# Altium footprint library Connectors.PcbLib: 86 footprints (part 3 of 6)
Each footprint in its own frame and in the unit in brackets; x right, y up, seen from the top. Pads: shape width x height; smd on the part's side, far side on the other; paste and mask are expansions set on the pad; w line width, h text height; cw(c..) or ccw(c..) is an arc to the next point about the centre after c.
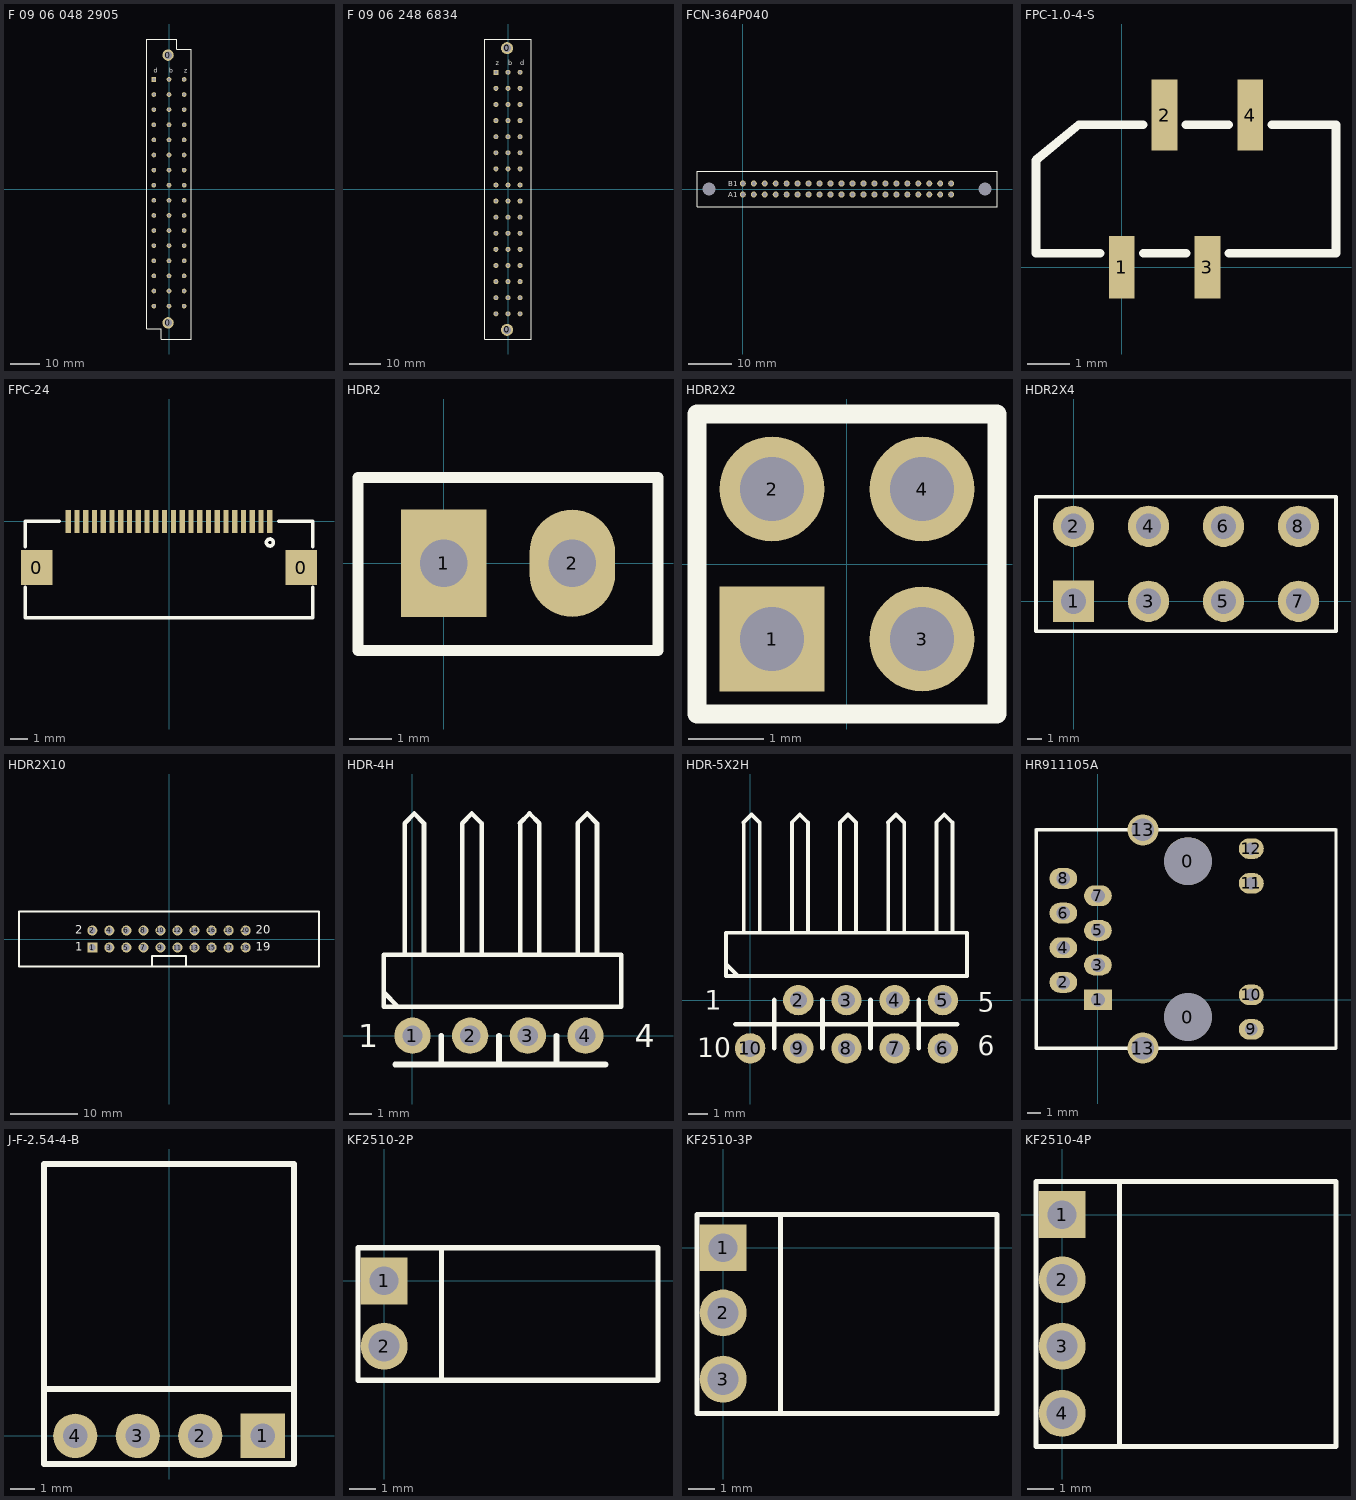
[diagram p2: the footprints below, top view; thin cyan lines are the x and y axes]

## F 09 06 048 2905 [mil] "Harting Type F 09 06 048 2905"
pads (50):
  round 150 hole 100: 0(-11.81,-1771.65) 0(-11.81,1771.65)
  round 62 hole 39.37: 2B(0,1450) 2Z(200,1450) 4B(0,1250) 4D(-200,1250) 4Z(200,1250) 6B(0,1050) 6D(-200,1050) 6Z(200,1050) 8B(0,850) 8D(-200,850) 8Z(200,850) 10B(0,650) 10D(-200,650) 10Z(200,650) 12B(0,450) 12D(-200,450) 12Z(200,450) 14B(0,250) 14D(-200,250) 14Z(200,250) 16B(0,50) 16D(-200,50) 16Z(200,50) 18B(0,-150) 18D(-200,-150) 18Z(200,-150) 20B(0,-350) 20D(-200,-350) 20Z(200,-350) 22B(0,-550) 22D(-200,-550) 22Z(200,-550) 24B(0,-750) 24D(-200,-750) 24Z(200,-750) 26B(0,-950) 26D(-200,-950) 26Z(200,-950) 28B(0,-1150) 28D(-200,-1150) 28Z(200,-1150) 30B(0,-1350) 30D(-200,-1350) 30Z(200,-1350) 32B(0,-1550) 32D(-200,-1550) 32Z(200,-1550)
  rect 62x62 hole 39.37: 2D(-200,1450)
Top Overlay:
  lines w10: -291.34,-1850.39 -100,-1850.39 -100,-1985.24 291.34,-1985.24 291.34,1850.39 100,1850.39 100,1985.24 -291.34,1985.24 -291.34,-1850.39
  text "d" at -200,1535.43 h60
  text "b" at 0,1535.43 h60
  text "z" at 200,1535.43 h60

## F 09 06 248 6834 [mil] "Harting Type F 09 06 248 6834"
pads (50):
  round 150 hole 100: 0(-11.81,-1750) 0(-11.81,1750)
  round 62 hole 39.37: 2B(0,1450) 2D(150,1450) 4B(0,1250) 4D(150,1250) 4Z(-150,1250) 6B(0,1050) 6D(150,1050) 6Z(-150,1050) 8B(0,850) 8D(150,850) 8Z(-150,850) 10B(0,650) 10D(150,650) 10Z(-150,650) 12B(0,450) 12D(150,450) 12Z(-150,450) 14B(0,250) 14D(150,250) 14Z(-150,250) 16B(0,50) 16D(150,50) 16Z(-150,50) 18B(0,-150) 18D(150,-150) 18Z(-150,-150) 20B(0,-350) 20D(150,-350) 20Z(-150,-350) 22B(0,-550) 22D(150,-550) 22Z(-150,-550) 24B(0,-750) 24D(150,-750) 24Z(-150,-750) 26B(0,-950) 26D(150,-950) 26Z(-150,-950) 28B(0,-1150) 28D(150,-1150) 28Z(-150,-1150) 30B(0,-1350) 30D(150,-1350) 30Z(-150,-1350) 32B(0,-1550) 32D(150,-1550) 32Z(-150,-1550)
  rect 62x62 hole 39.37: 2Z(-150,1450)
Top Overlay:
  lines w10: -291.34,-1863.19 -291.34,1863.19 291.34,1863.19 291.34,-1863.19 -291.34,-1863.19
  text "d" at 150,1535.43 h60
  text "b" at 0,1535.43 h60
  text "z" at -150,1535.43 h60

## FCN-364P040 [mm] "FCN-364P040"
pads (42):
  round 1.4 hole 3: 0(-7.86,0) 0(56.12,0)
  round 1.4 hole 0.9: A1(0,-1.27) A2(2.54,-1.27) A3(5.08,-1.27) A4(7.62,-1.27) A5(10.16,-1.27) A6(12.7,-1.27) A7(15.24,-1.27) A8(17.78,-1.27) A9(20.32,-1.27) A10(22.86,-1.27) A11(25.4,-1.27) A12(27.94,-1.27) A13(30.48,-1.27) A14(33.02,-1.27) A15(35.56,-1.27) A16(38.1,-1.27) A17(40.64,-1.27) A18(43.18,-1.27) A19(45.72,-1.27) A20(48.26,-1.27) B1(0,1.27) B2(2.54,1.27) B3(5.08,1.27) B4(7.62,1.27) B5(10.16,1.27) B6(12.7,1.27) B7(15.24,1.27) B8(17.78,1.27) B9(20.32,1.27) B10(22.86,1.27) B11(25.4,1.27) B12(27.94,1.27) B13(30.48,1.27) B14(33.02,1.27) B15(35.56,1.27) B16(38.1,1.27) B17(40.64,1.27) B18(43.18,1.27) B19(45.72,1.27) B20(48.26,1.27)
Top Overlay:
  lines w0.254: -10.61,-4.125 -10.61,4.125 58.87,4.125 58.87,-4.125 -10.61,-4.125
  text "A1" at -3.4,-1.9 h1.2
  text "B1" at -3.4,0.6 h1.2

## FPC-1.0-4-S [mm]
pads (4):
  rect 0.6x1.45 smd: 1(0,0) 3(2,0)
  rect 0.6x1.65 smd: 2(1,3.55) 4(3,3.55)
Top Overlay:
  lines w0.2: -0.5,0.325 -2,0.325 -2,2.5 -1,3.325 0.5,3.325 ; 0.5,0.325 1.5,0.325 ; 1.5,3.325 2.5,3.325 ; 2.5,0.325 5,0.325 5,3.325 3.5,3.325

## FPC-24 [mm] "FPC-24"
pads (26):
  rect 1.8x2 smd: 0(-7.55,-2.625) 0(7.55,-2.625)
  rect 0.3x1.3 smd: 1(5.75,0) 2(5.25,0) 3(4.75,0) 4(4.25,0) 5(3.75,0) 6(3.25,0) 7(2.75,0) 8(2.25,0) 9(1.75,0) 10(1.25,0) 11(0.75,0) 12(0.25,0) 13(-0.25,0) 14(-0.75,0) 15(-1.25,0) 16(-1.75,0) 17(-2.25,0) 18(-2.75,0) 19(-3.25,0) 20(-3.75,0) 21(-4.25,0) 22(-4.75,0) 23(-5.25,0) 24(-5.75,0)
Top Overlay:
  circle w0.2: c5.75,-1.2 r0.2
  lines w0.2: -8.2,-3.75 -8.2,-5.5 8.2,-5.5 8.2,-3.75 ; -8.2,-1.45 -8.2,0 -6.25,0 ; 6.25,0 8.2,0 8.2,-1.45

## HDR2 [mm] "connector ,2Pin,5.08mm"
pads (2):
  rect 2x2.5 hole 1.1: 1(0,0)
  oval 2x2.5 hole 1.1: 2(3,0)
Top Overlay:
  lines w0.254: -2,-2.032 5,-2.032 ; -2,-2 -2,2 5,2 5,-2

## HDR2X2 [mm]
pads (4):
  rect 1.4x1.4 hole 0.85: 1(-1,-1)
  round 1.4 hole 0.85: 2(-1,1) 3(1,-1) 4(1,1)
Top Overlay:
  lines w0.254: -2,-2 -2,2 2,2 2,-2 -2,-2

## HDR2X4 [mm] "HDR2X4 5.08mm"
pads (8):
  rect 2.8x2.8 hole 1.7: 1(0,0)
  round 2.8 hole 1.7: 2(0,5.08) 3(5.08,0) 4(5.08,5.08) 5(10.16,0) 6(10.16,5.08) 7(15.24,0) 8(15.24,5.08)
Top Overlay:
  lines w0.254: -2.54,-2.032 17.78,-2.032 17.78,7.08 -2.54,7.08 -2.54,-2.032

## HDR2X10 [mm] "Connector; Header; 10x2 Position"
pads (20):
  rect 1.5x1.5 hole 1: 1(-11.43,-1.27)
  round 1.5 hole 1: 2(-11.43,1.27) 3(-8.89,-1.27) 4(-8.89,1.27) 5(-6.35,-1.27) 6(-6.35,1.27) 7(-3.81,-1.27) 8(-3.81,1.27) 9(-1.27,-1.27) 10(-1.27,1.27) 11(1.27,-1.27) 12(1.27,1.27) 13(3.81,-1.27) 14(3.81,1.27) 15(6.35,-1.27) 16(6.35,1.27) 17(8.89,-1.27) 18(8.89,1.27) 19(11.43,-1.27) 20(11.43,1.27)
Top Overlay:
  lines w0.254: -2.54,-4.1 -2.54,-2.54 2.54,-2.54 2.54,-4.1 ; -22.35,-4.1 -22.35,4.1 22.35,4.1 22.35,-4.1 -22.35,-4.1
  text "20" at 12.954,0.762 h1.27
  text "19" at 12.954,-1.778 h1.27
  text "1" at -13.97,-1.778 h1.27
  text "2" at -13.97,0.762 h1.27

## HDR-4H [mm] "单排弯脚排针，4脚"
height 7.01
pads (4):
  round 1.6 hole 0.9: 1(0,0) 2(2.54,0) 3(5.08,0) 4(7.62,0)
Top Overlay:
  lines w0.2: -1.27,1.905 -0.635,1.27 ; -0.348,9.364 0.075,9.787 0.499,9.364 0.508,9.355 0.508,3.556 ; -0.339,3.556 -0.339,9.364 ; 2.192,9.364 2.615,9.787 3.039,9.364 ; 2.201,3.556 2.201,9.364 ; 3.048,3.556 3.048,9.364 ; 4.732,9.364 5.155,9.787 5.579,9.364 ; 4.741,3.556 4.741,9.364 ; 5.588,3.556 5.588,9.364 ; 7.272,9.364 7.695,9.787 8.119,9.364 ; 7.281,3.556 7.281,9.364 ; 8.128,3.556 8.128,9.364 ; -1.27,1.27 -1.27,3.556 9.2,3.556 9.2,1.27 -1.27,1.27
  lines w0.254: -0.762,-1.27 8.5,-1.27 ; 1.27,-1.2 1.27,0 ; 3.81,-1.27 3.81,0 ; 6.35,-1.27 6.35,0
  text "1" at -2.4,-0.5 h1.02
  text "4" at 9.8,-0.5 h1.02
Bottom Overlay:
  lines w0.254: -0.762,-1.27 8.5,-1.27 ; 1.27,-1.2 1.27,0 ; 3.81,-1.27 3.81,0 ; 6.35,-1.27 6.35,0

## HDR-5X2H [mm] "双排弯脚排针，5x2脚"
height 7.01
pads (9):
  round 1.6 hole 0.9: 2(2.54,0) 3(5.08,0) 4(7.62,0) 5(10.16,0) 6(10.16,-2.54) 7(7.62,-2.54) 8(5.08,-2.54) 9(2.54,-2.54) 10(0,-2.54)
Top Overlay:
  lines w0.2: -1.27,1.905 -0.635,1.27 ; -0.348,9.364 0.075,9.787 0.499,9.364 0.508,9.355 0.508,3.556 ; -0.339,3.556 -0.339,9.364 ; 2.192,9.364 2.615,9.787 3.039,9.364 ; 2.201,3.556 2.201,9.364 ; 3.048,3.556 3.048,9.364 ; 4.732,9.364 5.155,9.787 5.579,9.364 ; 4.741,3.556 4.741,9.364 ; 5.588,3.556 5.588,9.364 ; 7.272,9.364 7.695,9.787 8.119,9.364 ; 7.281,3.556 7.281,9.364 ; 8.128,3.556 8.128,9.364 ; 9.812,9.364 10.235,9.787 10.659,9.364 ; 9.821,3.556 9.821,9.364 ; 10.668,3.556 10.668,9.364 ; -1.27,1.27 11.43,1.27 11.43,3.556 -1.27,3.556 -1.27,1.27
  lines w0.254: -0.762,-1.27 10.922,-1.27 ; 1.27,-2.54 1.27,0 ; 3.81,-2.54 3.81,0 ; 6.35,-2.54 6.35,0 ; 8.89,-2.54 8.89,0
  text "10" at -2.8,-3 h1.02
  text "5" at 12,-0.6 h1.02
  text "1" at -2.4,-0.5 h1.02
  text "6" at 12,-2.9 h1.02
Bottom Overlay:
  lines w0.254: -0.762,-1.27 10.922,-1.27 ; 1.27,-2.54 1.27,0 ; 3.81,-2.54 3.81,0 ; 6.35,-2.54 6.35,0 ; 8.89,-2.54 8.89,0

## HR911105A [mil]
pads (16):
  round 137.8 hole 137.8: 0(260,-50) 0(260,400)
  rect 80x60 hole 40: 1(0,0)
  oval 80x60 hole 40: 2(-100,50) 3(0,100) 4(-100,150) 5(0,200) 6(-100,250) 7(0,300) 8(-100,350)
  oval 72x60 hole 36: 9(442.91,-85.63) 10(442.91,14) 11(442.91,335.87) 12(442.91,436)
  round 90 hole 65: 13(129.92,-139.76) 13(129.92,490.16)
Top Overlay:
  lines w10: -178.74,-140 -178.5,-139.76 ; -178.74,490 -178.58,490.16 ; -178.58,490.16 129.92,490.16 687.24,490.16 687.4,490 687.4,-140 687.17,-139.76 129.92,-139.76 -178.5,-139.76 ; -178.58,490.16 -178.58,-139.69 -178.5,-139.76

## J-F-2.54-4-B [mm] "SIP; 4 Lead RightAngle; Pitch 2.54mm;"
height 7
pads (4):
  rect 1.8x1.8 hole 0.99: 1(3.81,0)
  round 1.8 hole 0.99: 2(1.27,0) 3(-1.27,0) 4(-3.81,0)
Top Overlay:
  lines w0.254: -5.08,1.905 -5.08,11.049 5.08,11.049 5.08,1.905 ; -5.08,1.905 -5.08,-1.143 5.08,-1.143 5.08,1.905 ; -5.08,1.905 5.08,1.905

## KF2510-2P [mm]
pads (2):
  rect 1.8x1.8 hole 1.1: 1(0,0)
  round 1.8 hole 1.2: 2(0,-2.5)
Top Overlay:
  lines w0.2: 2.2,-3.81 2.2,1.27 ; -1,-3.81 10.5,-3.81 10.5,1.27 -1,1.27 -1,-3.81

## KF2510-3P [mm]
pads (3):
  rect 1.8x1.8 hole 1.1: 1(0,0)
  round 1.8 hole 1.2: 2(0,-2.5) 3(0,-5.04)
Top Overlay:
  lines w0.2: 2.2,-6.35 2.2,1.27 ; -1,-6.35 10.5,-6.35 10.5,1.27 -1,1.27 -1,-6.35

## KF2510-4P [mm]
pads (4):
  rect 1.8x1.8 hole 1.1: 1(0,0)
  round 1.8 hole 1.2: 2(0,-2.5) 3(0,-5.04) 4(0,-7.62)
Top Overlay:
  lines w0.2: 2.2,-8.89 2.2,1.27 ; -1,-8.89 10.5,-8.89 10.5,1.27 -1,1.27 -1,-8.89